# Altium schematic symbol library SeniorDesign.SchLib: 7 symbols
Pins are listed as number, name and electrical type; pins without a type are passive.

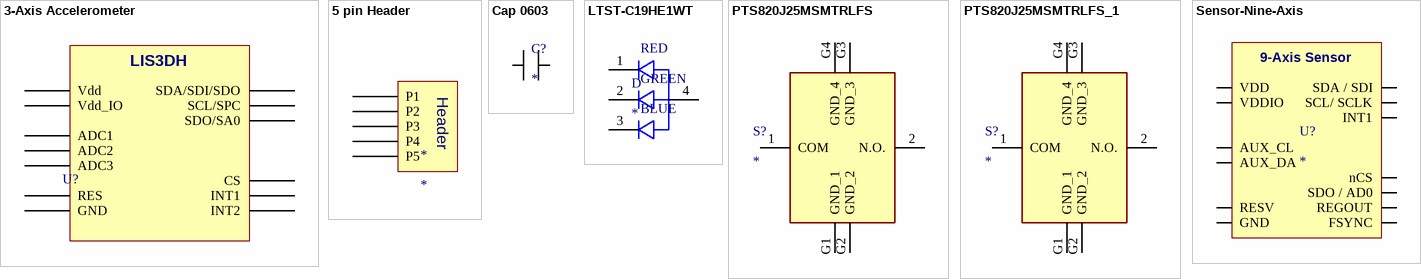
[diagram p0: symbols 3-Axis Accelerometer to Sensor-Nine-Axis]

## 3-Axis Accelerometer
designator U?
footprint LIS3DH (Accelerometer)
pins: ADC1, ADC2, ADC3, CS, GND, INT1, INT2, RES, SCL/SPC, SDA/SDI/SDO, SDO/SA0, Vdd, Vdd_IO
text: LIS3DH

## 5 pin Header
designator *
footprint CONNECTOR-HEADER-PINS
pins: P1, P2, P3, P4, P5
text: Header

## Cap 0603
designator C?
footprint Capacitor
pins: 1, 2

## LTST-C19HE1WT
designator D
Red, Green, Blue _RGB_ 624nm Red, 525nm Green, 470nm Blue LED Indication - Discrete 2.1V Red, 3.35V Green, 3.35V Blue 0606 _1616 Metric_; MP: LTST-C19HE1WT; MF: Lite-On Inc.; Value: *; SnapEDA_Link: https://www.snapeda.com/parts/LTST-C19HE1WT/Lite-On%20Inc./view-part/423425/?ref=snap; Price: None; Package: 0606 Lite-On; Availability: Unavailable
footprint LED_LTST-C19HE1WT
footprint LED_LTST-C19HE1WT
pins: 1, 2, 3, 4
text: RED; GREEN; BLUE

## PTS820J25MSMTRLFS
designator S?
Switch; Manufacturer_Name: C & K COMPONENTS; Manufacturer_Part_Number: PTS820J25MSMTRLFS; Description: Tactile Switches Microminiature SMT Top Actuated; Datasheet Link: https://www.ckswitches.com/media/1474/pts820.pdf; Height: 1.5mm; Mouser Part Number: 611-PTS820J25MSMTR; Mouser Price/Stock: https://www.mouser.co.uk/ProductDetail/CK/PTS820J25MSMTRLFS?qs=UxeAxwACbqmM7fS1sTfuhg%3D%3D
footprint PTS820J25MSMTRLFS
pins: 1 COM, 2 N.O., G1 GND_1, G2 GND_2, G3 GND_3, G4 GND_4

## PTS820J25MSMTRLFS_1
designator S?
Switch; Manufacturer_Name: C & K COMPONENTS; Manufacturer_Part_Number: PTS820J25MSMTRLFS; Description: Tactile Switches Microminiature SMT Top Actuated; Datasheet Link: https://www.ckswitches.com/media/1474/pts820.pdf; Height: 1.5mm; Mouser Part Number: 611-PTS820J25MSMTR; Mouser Price/Stock: https://www.mouser.co.uk/ProductDetail/CK/PTS820J25MSMTRLFS?qs=UxeAxwACbqmM7fS1sTfuhg%3D%3D
footprint PTS820J25MSMTRLFS
pins: 1 COM, 2 N.O., G1 GND_1, G2 GND_2, G3 GND_3, G4 GND_4

## Sensor-Nine-Axis
designator U?
3-axis gyroscope, 3-axis accelerometer, 3-axis compass, and a Digital Motion Processor.
footprint Sensor-Nine-Axis
pins: AUX_CL, AUX_DA, FSYNC, GND, INT1, nCS, REGOUT, RESV, SCL / SCLK SCL/ SCLK, SDA / SDI, SDO / AD0, VDD, VDDIO
text: 9-Axis Sensor